# Altium schematic symbol library OR Schmitt trigger gates.SchLib: 1 symbol
Pins are listed as number, name and electrical type; pins without a type are passive.

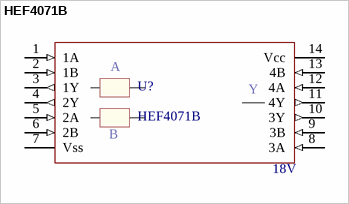
[diagram p0: symbol HEF4071B]

## HEF4071B
designator U?  Vcc max: 18V
OR 4-ch 18V max Schmitt trigger gate; Supplier 1: Digi-Key; Supplier 2: Digi-Key; Supplier 3: Digi-Key; Supplier Part Number 1: 568-3118-5-ND; Supplier Part Number 2: 568-8239-6-ND; Supplier Part Number 3: 568-8239-1-ND
footprint LC-SOIC-14_150mil
pins: 1 1A (in), 2 1B (in), 3 1Y (out), 4 2Y (out), 5 2A (in), 6 2B (in), 7 Vss, 8 3A (in), 9 3B (in), 10 3Y (out), 11 4Y (out), 12 4A (in), 13 4B (in), 14 Vcc
text: A; Y; B